# EAGLE library part LAN8710_QFN32_1_QFN32_5X5MM_EP3 (library BeagleBone_Black_egl)
LAN8710_QFN32_1_QFN32_5X5MM_EP3
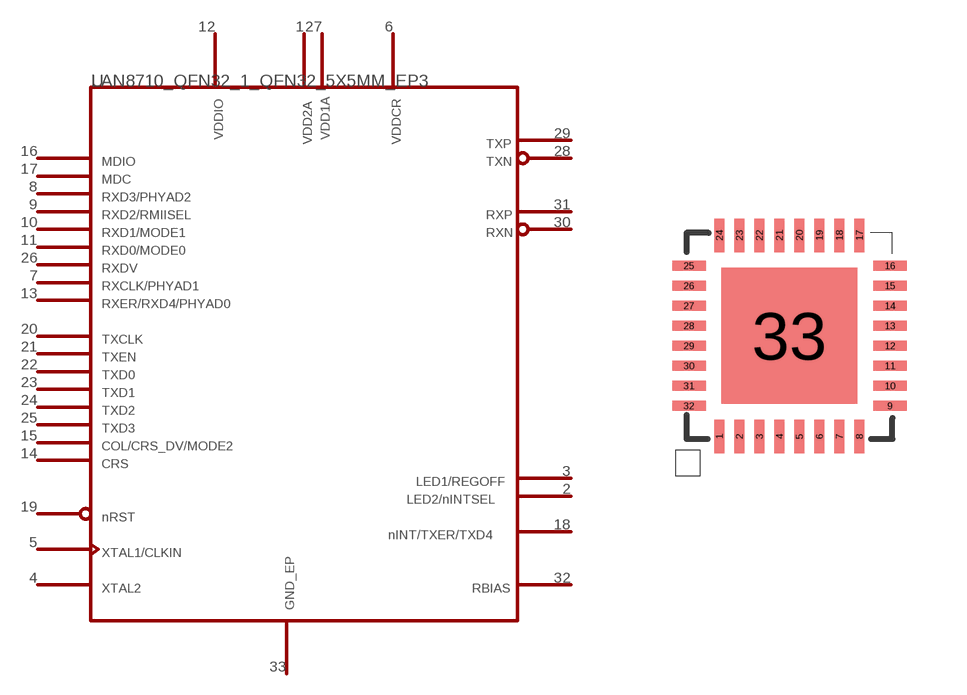
[diagram p11: symbol with the pads of QFN32_5X5MM_EP3P3MM; footprint QFN32_5X5MM_EP3P3MM]

Designator prefix -

## LAN8710_QFN32_1_QFN32_5X5MM_EP3  [QFN32_5X5MM_EP3P3MM]
1  25
2  32
3  33
4  20
5  19
6  26
7  8
8  3
9  4
10  5
11  6
12  23
13  9
14  17
15  16
16  1
17  2
18  31
19  18
20  10
21  11
22  12
23  13
24  14
25  15
26  7
27  24
28  29
29  30
30  28
31  27
32  22
33  21

## Footprint QFN32_5X5MM_EP3P3MM (pad centres in mm)
smd 0.254 x 0.838: 1 -1.751,-2.515; 2 -1.251,-2.515; 3 -0.751,-2.515; 4 -0.25,-2.515; 5 0.25,-2.515; 6 0.751,-2.515; 7 1.251,-2.515; 8 1.751,-2.515; 17 1.751,2.515; 18 1.251,2.515; 19 0.751,2.515; 20 0.25,2.515; 21 -0.25,2.515; 22 -0.751,2.515; 23 -1.251,2.515; 24 -1.751,2.515
smd 0.838 x 0.254: 9 2.515,-1.751; 10 2.515,-1.251; 11 2.515,-0.751; 12 2.515,-0.25; 13 2.515,0.25; 14 2.515,0.751; 15 2.515,1.251; 16 2.515,1.751; 25 -2.515,1.751; 26 -2.515,1.251; 27 -2.515,0.751; 28 -2.515,0.25; 29 -2.515,-0.25; 30 -2.515,-0.751; 31 -2.515,-1.251; 32 -2.515,-1.751
smd 3.404 x 3.404: 33 0,0